# Altium schematic symbol library Microcontroller.SchLib: 3 symbols
Pins are listed as number, name and electrical type; pins without a type are passive.

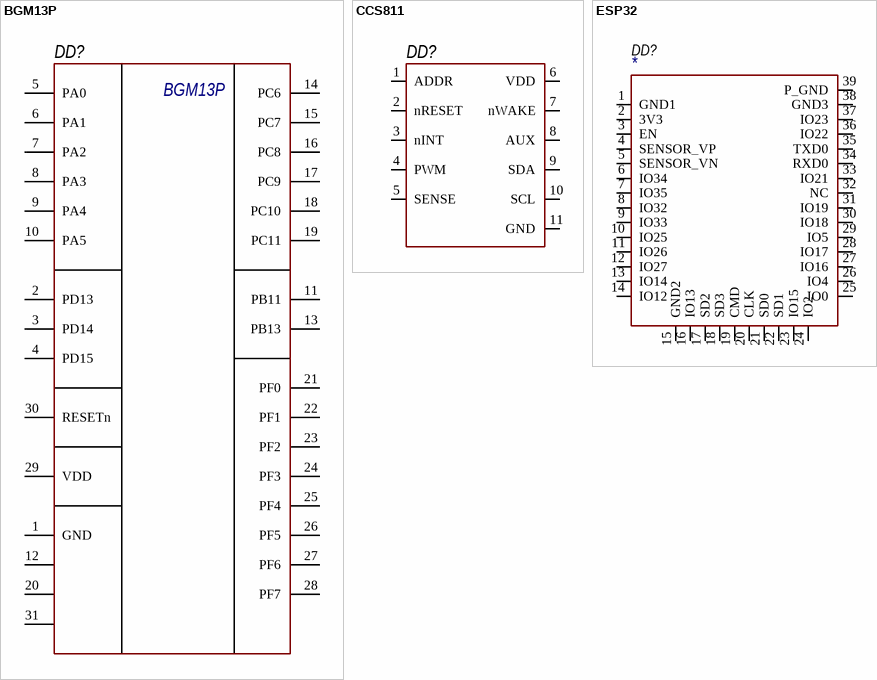
[diagram p0: symbols BGM13P to ESP32]

## BGM13P
designator DD?
Case: *; HelpURL: *; Manufacature: *; Model: *; Value: *
footprint Bgm13P
pins: 1 GND, 2 PD13, 3 PD14, 4 PD15, 5 PA0, 6 PA1, 7 PA2, 8 PA3, 9 PA4, 10 PA5, 11 PB11, 12 GND, 13 PB13, 14 PC6, 15 PC7, 16 PC8, 17 PC9, 18 PC10, 19 PC11, 20 GND, 21 PF0, 22 PF1, 23 PF2, 24 PF3, 25 PF4, 26 PF5, 27 PF6, 28 PF7, 29 VDD, 30 RESETn, 31 GND

## CCS811
designator DD?
Case: *; HelpURL: *; Manufacature: *; Model: *; Value: *
footprint CCS811
pins: 1 ADDR, 2 nRESET, 3 nINT, 4 PWM, 5 SENSE, 6 VDD, 7 nWAKE, 8 AUX, 9 SDA, 10 SCL, 11 GND

## ESP32
designator DD?
footprint ESP32
pins: 1 GND1, 2 3V3, 3 EN, 4 SENSOR_VP, 5 SENSOR_VN, 6 IO34, 7 IO35, 8 IO32, 9 IO33, 10 IO25, 11 IO26, 12 IO27, 13 IO14, 14 IO12, 15 GND2, 16 IO13, 17 SD2, 18 SD3, 19 CMD, 20 CLK, 21 SD0, 22 SD1, 23 IO15, 24 IO2, 25 IO0, 26 IO4, 27 IO16, 28 IO17, 29 IO5, 30 IO18, 31 IO19, 32 NC, 33 IO21, 34 RXD0, 35 TXD0, 36 IO22, 37 IO23, 38 GND3, 39 P_GND